# EAGLE library part WIIMOTE_CONN (library conn)
Wii Mote Connector
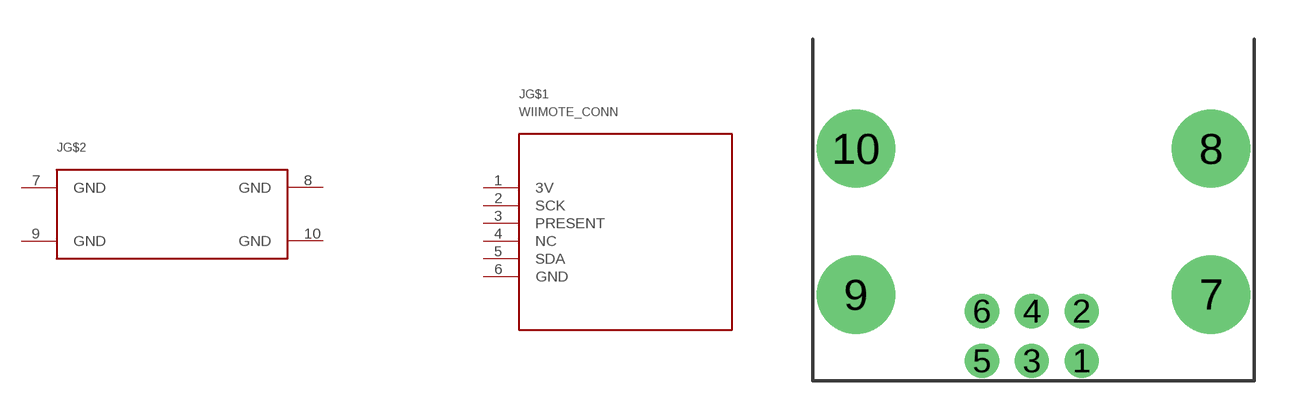
[diagram p0: symbol with the pads of WIIMOTE; footprint WIIMOTE]

Designator prefix J; gates G$1=WIIMOTE_6P G$2=WIIMOTE_6P_PWR

## WIIMOTE_CONN  [WIIMOTE]
1  G$1:3V
2  G$1:SCK
3  G$1:PRESENT
4  G$1:NC
5  G$1:SDA
6  G$1:GND
7  G$2:GND  pwr
8  G$2:GND  pwr
9  G$2:GND  pwr
10  G$2:GND  pwr

## Footprint WIIMOTE (pad centres in mm)
Wii Mote Connector Geometry
drill 0.8: 1 3.81,-1.905; 2 3.81,0; 3 1.905,-1.905; 4 1.905,0; 5 0,-1.905; 6 0,0
drill 2: 7 8.763,0.635; 8 8.763,6.223; 9 -4.826,0.635; 10 -4.826,6.223